# Altium footprint library PowerBoardLib1.PCBLIB: 9 footprints
Each footprint in its own frame and in the unit in brackets; x right, y up, seen from the top. Pads: shape width x height; smd on the part's side, far side on the other; paste and mask are expansions set on the pad; w line width, h text height; cw(c..) or ccw(c..) is an arc to the next point about the centre after c.
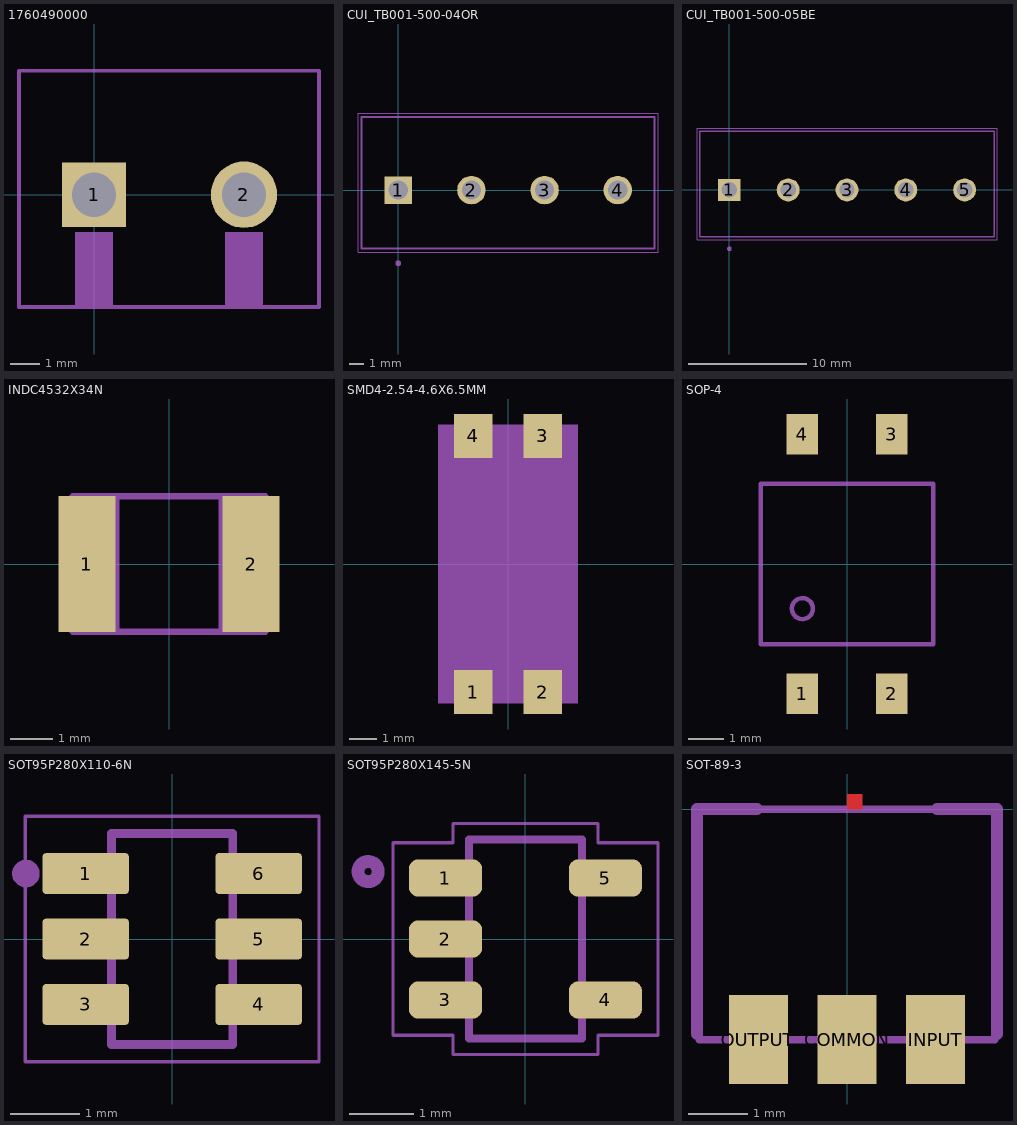
[diagram p0: the footprints below, top view; thin cyan lines are the x and y axes]

## 1760490000 [mm]
pads (2):
  rect 2.179x2.179 / inner rect 1.524x1.524 / far side rect 2.179x2.179 hole 1.5: 1(0,0)
  round 2.25 / inner round 1.524 / far side round 2.25 hole 1.5: 2(5.08,0)
Mechanical 22:
  region: 4.451,-3.815 4.451,-1.27 5.715,-1.27 5.715,-3.815
  region: -0.635,-3.812 -0.635,-1.27 0.635,-1.27 0.635,-3.812
  lines w0.127: -2.54,-3.8 7.62,-3.8 7.62,4.2 -2.54,4.2 -2.54,-3.8

## CUI_TB001-500-04OR [mm]
pads (4):
  rect 1.888x1.888 / inner rect 1.524x1.524 / far side rect 1.888x1.888 hole 1.3: 1(0,0)
  round 1.95 / inner round 1.524 / far side round 1.95 hole 1.3: 2(5,0) 3(10,0) 4(15,0)
Mechanical 8:
  circle w0.2: c0,-5 r0.1
  lines w0.127: -2.5,-4 17.5,-4 17.5,5 -2.5,5 -2.5,-4
Mechanical 22:
  circle w0.2: c0,-5 r0.1
  lines w0.127: -2.5,-4 17.5,-4 17.5,5 -2.5,5 -2.5,-4
Mechanical 30:
  lines w0.05: -2.75,-4.25 -2.75,5.25 17.75,5.25 17.75,-4.25 -2.75,-4.25

## CUI_TB001-500-05BE [mm]
pads (5):
  rect 1.888x1.888 / inner rect 1.524x1.524 / far side rect 1.888x1.888 hole 1.3: 1(0,0)
  round 1.95 / inner round 1.524 / far side round 1.95 hole 1.3: 2(5,0) 3(10,0) 4(15,0) 5(20,0)
Mechanical 8:
  circle w0.2: c0,-5 r0.1
  lines w0.127: -2.5,-4 22.5,-4 22.5,5 -2.5,5 -2.5,-4
Mechanical 22:
  circle w0.2: c0,-5 r0.1
  lines w0.127: -2.5,-4 22.5,-4 22.5,5 -2.5,5 -2.5,-4
Mechanical 30:
  lines w0.05: -2.75,-4.25 -2.75,5.25 22.75,5.25 22.75,-4.25 -2.75,-4.25

## INDC4532X34N [mil]
pads (2):
  rect 53x126 smd: 1(-76,0) 2(76,0)
Mechanical 8:
  lines w6: -49,-63 49,-63 ; -49,-63 -89,-63 -89,63 -49,63 ; -49,-63 -49,63 ; -49,63 49,63 ; 49,-63 89,-63 89,63 49,63 ; 49,-63 49,63
Mechanical 22:
  lines w6: -36,-63 36,-63 ; -36,63 36,63

## SMD4-2.54-4.6X6.5MM [mm]
pads (4):
  rect 1.4x1.6 smd: 1(-1.27,-4.68) 2(1.27,-4.68) 3(1.27,4.68) 4(-1.27,4.68)
Mechanical 8:
  region: 0,0 0.254,0 0.254,0.254 0,0.254
  region: 0,0 0.254,0 0.254,0.254 0,0.254
  region: 0,0 0.254,0 0.254,0.254 0,0.254
  region: 0,0 0.254,0 0.254,0.254 0,0.254
Mechanical 22:
  circle w0: c-1.27,-2.54 r0.635
  lines w0.127: -2.3,-3.25 -2.3,3.25 2.3,3.25 2.3,-3.25 -2.3,-3.25
Mechanical 30:
  region: -2.541,-5.083 -2.541,5.08 2.54,5.08 2.54,-5.083

## SOP-4 [mm]
pads (4):
  rect 0.9x1.15 smd: 1(-1.27,-3.7) 2(1.27,-3.7) 3(1.27,3.7) 4(-1.27,3.7)
Mechanical 22:
  circle w0.127: c-1.27,-1.27 r0.3
  lines w0.127: -2.46,-2.285 -2.46,2.285 2.46,2.285 2.46,-2.285 -2.46,-2.285

## SOT95P280X110-6N [mm]
pads (6):
  rrect15% 1.25x0.59 smd: 1(-1.255,0.95) 2(-1.255,0) 3(-1.255,-0.95) 4(1.255,-0.95) 5(1.255,0) 6(1.255,0.95)
Mechanical 8:
  lines w0.127: -0.88,-1.53 -0.88,1.53 0.88,1.53 0.88,-1.53 -0.88,-1.53
Mechanical 22:
  circle w0.2: c-2.123,0.95 r0.1
  lines w0.127: -0.88,-1.53 0.88,-1.53 ; -0.88,1.53 0.88,1.53
Mechanical 30:
  lines w0.05: -2.13,-1.78 2.13,-1.78 2.13,1.78 -2.13,1.78 -2.13,-1.78

## SOT95P280X145-5N [mm]
pads (5):
  rrect50% 1.14x0.58 smd: 1(-1.245,0.95) 2(-1.245,0) 3(-1.245,-0.95) 4(1.245,-0.95) 5(1.245,0.95)
Mechanical 8:
  lines w0.127: -0.88,-1.55 0.88,-1.55 0.88,1.55 -0.88,1.55 -0.88,-1.55
Mechanical 22:
  circle w0.2: c-2.45,1.05 r0.158
  lines w0.127: -0.88,-1.55 0.88,-1.55 ; -0.88,1.55 0.88,1.55
Mechanical 30:
  lines w0.05: -2.065,-1.5 -2.065,1.5 -1.13,1.5 -1.13,1.8 1.13,1.8 1.13,1.5 2.065,1.5 2.065,-1.5 1.13,-1.5 1.13,-1.8 -1.13,-1.8 -1.13,-1.5 -2.065,-1.5

## SOT-89-3 [mm]
pads (3):
  rect 1x1.5 smd: COMMON(0,-3.9) INPUT(1.5,-3.9) OUTPUT(-1.5,-3.9)
Top Layer:
  region: 0,0 0.254,0 0.254,0.254 0,0.254
Top Paste:
  region: 0,0 0.254,0 0.254,0.254 0,0.254
Top Solder:
  region: 0,0 0.254,0 0.254,0.254 0,0.254
Mechanical 8:
  lines w0.127: -2.5,-3.9 -2.5,0 2.5,0 2.5,-3.9 -2.5,-3.9
Mechanical 22:
  lines w0.203: -2.54,-3.81 -2.54,0 -1.524,0 ; 1.524,0 2.54,0 2.54,-3.81